# Altium integrated library Library.IntLib: 21 symbols
Pins are listed as number, name and electrical type; pins without a type are passive.

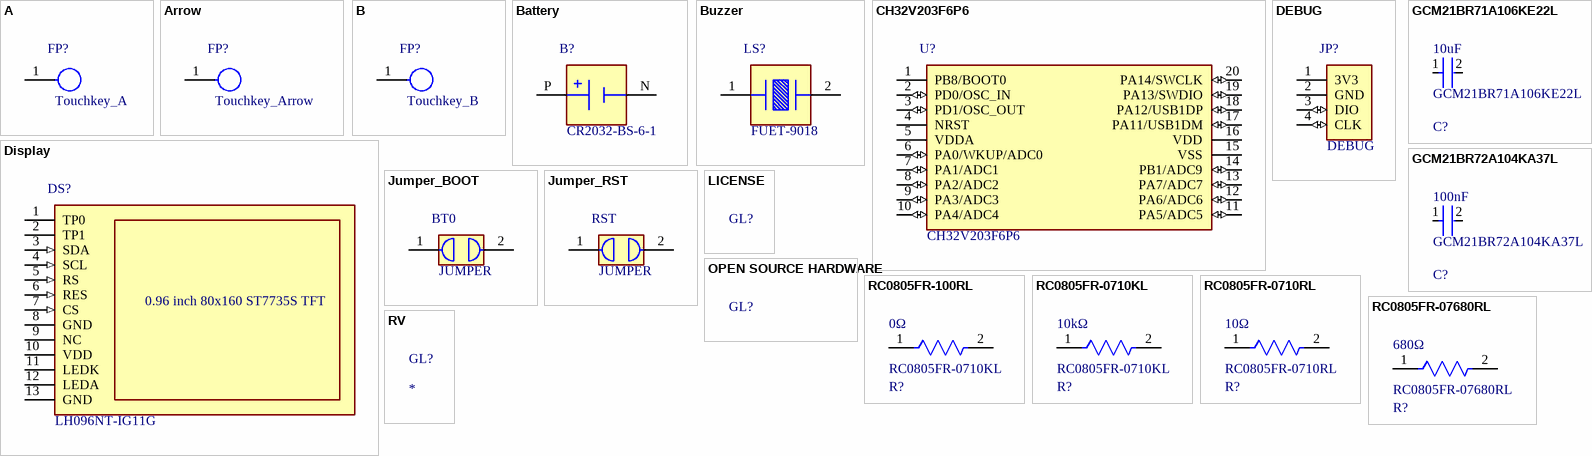
[diagram p0: symbols A to RV]

## A
designator FP?  Manufacturer Part Number: Touchkey_A  (hidden comment: *)
Touchkey A
footprint Touchkey_A
pins: 1

## Annoyedmilk
designator GL?  (value not drawn)
Image
footprint Annoyedmilk (Image)

## Arrow
designator FP?  Manufacturer Part Number: Touchkey_Arrow  (hidden comment: *)
Touchkey Arrow
footprint Touchkey_Arrow
pins: 1

## B
designator FP?  Manufacturer Part Number: Touchkey_B  (hidden comment: *)
Touchkey B
footprint Touchkey_B
pins: 1

## Battery
designator B?  Manufacturer Part Number: CR2032-BS-6-1  (hidden comment: *)
Battery holder CR2032 SMD; LCSC Part Number: C70377
footprint BAT_CR2032-BS-6-1
pins: N NEG, P POS

## Buzzer
designator LS?  Manufacturer Part Number: FUET-9018  (hidden comment: *)
Passive Buzzer; LCSC Part Number: C391035
footprint PKMCS0909E4000-R1
pins: 1, 2

## CH32V203F6P6
designator U?  Manufacturer Part Number: CH32V203F6P6  (hidden comment: *)
QingKe 32-bit RISC-V4B microcontroller up to 144MHz with 10KB SRAM, 32KB Flash (TSSOP20 Package); LCSC Part Number: *
footprint SOP65P640X121-20N
pins: 1 PB8/BOOT0, 2 PD0/OSC_IN (io), 3 PD1/OSC_OUT (io), 4 NRST, 5 VDDA (power), 6 PA0/WKUP/ADC0 (io), 7 PA1/ADC1 (io), 8 PA2/ADC2 (io), 9 PA3/ADC3 (io), 10 PA4/ADC4 (io), 11 PA5/ADC5 (io), 12 PA6/ADC6 (io), 13 PA7/ADC7 (io), 14 PB1/ADC9 (io), 15 VSS (power), 16 VDD (power), 17 PA11/USB1DM (io), 18 PA12/USB1DP (io), 19 PA13/SWDIO (io), 20 PA14/SWCLK (io)

## DEBUG
designator JP?  Manufacturer Part Number: DEBUG  (hidden comment: *)
DEBUG Header
footprint DEBUG
pins: 1 3V3 (power), 2 GND (power), 3 DIO (io), 4 CLK (io)

## Display
designator DS?  Manufacturer Part Number: LH096NT-IG11G  (hidden comment: *)
0.96" IPS Display 80x160 Pixel ST7735 Driver SPI
footprint 0.96 - IPS LCD - No Glass - Flat
pins: 1 TP0, 2 TP1, 3 SDA (in), 4 SCL (in), 5 RS (in), 6 RES (in), 7 CS (in), 8 GND (power), 9 NC, 10 VDD (power), 11 LEDK, 12 LEDA, 13 GND (power)
text: 0.96 inch 80x160 ST7735S TFT

## GCM21BR71A106KE22L
designator C?  Manufacturer Part Number: GCM21BR71A106KE22L  Capacitance: 10uF  (hidden comment: *)
10uF X7R 0805 Multilayer Ceramic Capacitor; LCSC Part Number: C126586
footprint C0805
pins: 1, 2

## GCM21BR72A104KA37L
designator C?  Manufacturer Part Number: GCM21BR72A104KA37L  Capacitance: 100nF  (hidden comment: *)
100nF X7R 0805 Multilayer Ceramic Capacitor; LCSC Part Number: C85866
footprint C0805
pins: 1, 2

## Jumper_BOOT
designator BT0  Manufacturer Part Number: JUMPER  (hidden comment: *)
Solder Jumper
footprint JUMPER_BOOT
pins: 1 (power), 2 (power)

## Jumper_RST
designator RST  Manufacturer Part Number: JUMPER  (hidden comment: *)
Solder Jumper
footprint JUMPER_RST
pins: 1 (power), 2 (power)

## LICENSE
designator GL?  (value not drawn)
Creative Commons
footprint License (Image)

## myCard
designator GL?  (value not drawn)
Image
footprint myCard (Image)

## OPEN SOURCE HARDWARE
designator GL?  (value not drawn)
Open-source hardware image
footprint OSH (Image)

## RC0805FR-100RL
designator R?  Resistance: 0Ω  Manufacturer Part Number: RC0805FR-0710KL  (hidden comment: *)
0Ω 0805 Chip Resistor; LCSC Part Number: C7336686
footprint R0805
pins: 1, 2

## RC0805FR-0710KL
designator R?  Resistance: 10kΩ  Manufacturer Part Number: RC0805FR-0710KL  (hidden comment: *)
10kΩ 0805 Chip Resistor; LCSC Part Number: C84376
footprint R0805
pins: 1, 2

## RC0805FR-0710RL
designator R?  Manufacturer Part Number: RC0805FR-0710RL  Resistance: 10Ω  (hidden comment: *)
10Ω 0805 Chip Resistor; LCSC Part Number: C96347
footprint R0805
pins: 1, 2

## RC0805FR-07680RL
designator R?  Manufacturer Part Number: RC0805FR-07680RL  Resistance: 680Ω  (hidden comment: *)
680Ω 0805 Chip Resistor; LCSC Part Number: C114549
footprint R0805
pins: 1, 2

## RV
designator GL?
RISC-V Image
footprint RV (Image)